# EAGLE library part TPS62237DRYR (library TPS62237DRYR)
2 MHz Ultra Small Step Down Converter with DCS-Control in 1x1.5 SON Package Source: Datasheet <http://www.ti.com/lit/gpn/TPS62230>
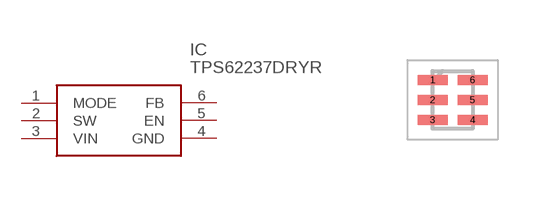
[diagram p0: symbol with the pads of SON50P100X145X60-6N; footprint SON50P100X145X60-6N]

Designator prefix IC

## TPS62237DRYR (Arrow_Part_Number: TPS62237DRYR; Arrow_Price-Stock: https://www.arrow.com/en/products/tps62237dryr/texas-instruments; Description: 2 MHz Ultra Small Step Down Converter with DCS-Control in 1x1.5 SON Package; Height: 0.6mm; Manufacturer_Name: Texas Instruments; Manufacturer_Part_Number: TPS62237DRYR; Mouser_Part_Number: 595-TPS62237DRYR; Mouser_Price-Stock: https://www.mouser.co.uk/ProductDetail/Texas-Instruments/TPS62237DRYR?qs=%2Fqzd9s%252BcLd6Amw0z%252Byi3sQ%3D%3D)  [SON50P100X145X60-6N]
1  MODE
2  SW
3  VIN
4  GND
5  EN
6  FB

## Footprint SON50P100X145X60-6N (pad centres in mm)
DRY
smd 0.75 x 0.25: 1 -0.5,0.5; 2 -0.5,0; 3 -0.5,-0.5; 4 0.5,-0.5; 5 0.5,0; 6 0.5,0.5